# EAGLE library part PIC18F4XK22 (library edeca)
40/44-Pin, Low-Power, High-Performance Microcontrollers with nanoWatt XLP Technology
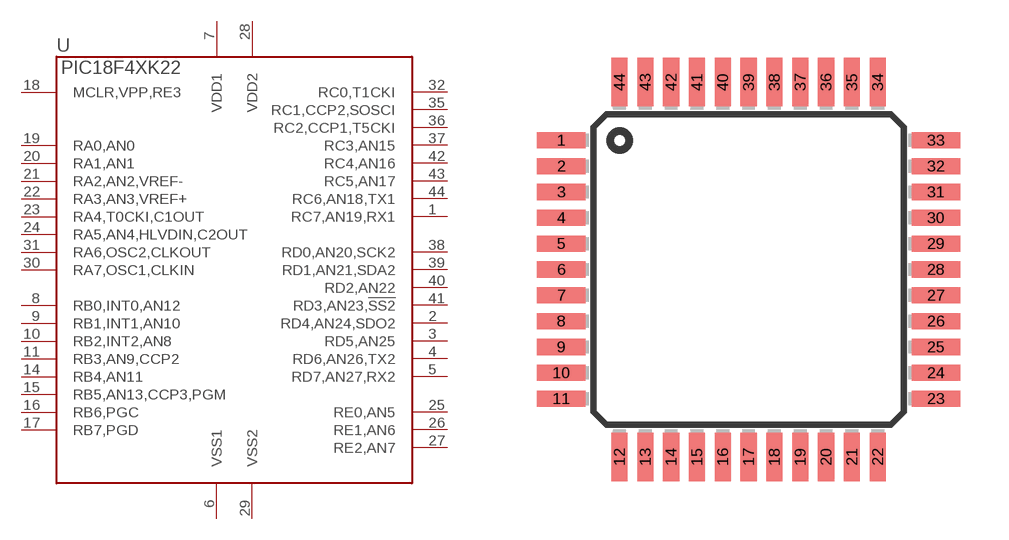
[diagram p10: symbol with the pads of TQFP44; footprint TQFP44]

Designator prefix -

## PIC18F4XK22-TQFP44  [TQFP44]
1  RC7,AN19,RX1
2  RD4,AN24,SDO2
3  RD5,AN25
4  RD6,AN26,TX2
5  RD7,AN27,RX2
6  VSS1  pwr
7  VDD1  pwr
8  RB0,INT0,AN12
9  RB1,INT1,AN10
10  RB2,INT2,AN8
11  RB3,AN9,CCP2
14  RB4,AN11
15  RB5,AN13,CCP3,PGM
16  RB6,PGC
17  RB7,PGD
18  MCLR,VPP,RE3  in
19  RA0,AN0
20  RA1,AN1
21  RA2,AN2,VREF-
22  RA3,AN3,VREF+
23  RA4,T0CKI,C1OUT
24  RA5,AN4,HLVDIN,C2OUT
25  RE0,AN5
26  RE1,AN6
27  RE2,AN7
28  VDD2  pwr
29  VSS2  pwr
30  RA7,OSC1,CLKIN  in
31  RA6,OSC2,CLKOUT  out
32  RC0,T1CKI
35  RC1,CCP2,SOSCI
36  RC2,CCP1,T5CKI
37  RC3,AN15
38  RD0,AN20,SCK2
39  RD1,AN21,SDA2
40  RD2,AN22
41  RD3,AN23,!SS2
42  RC4,AN16
43  RC5,AN17
44  RC6,AN18,TX1

## Footprint TQFP44 (pad centres in mm)
smd 1.5 x 0.5: 1 -5.8,4; 2 -5.8,3.2; 3 -5.8,2.4; 4 -5.8,1.6; 5 -5.8,0.8; 6 -5.8,0; 7 -5.8,-0.8; 8 -5.8,-1.6; 9 -5.8,-2.4; 10 -5.8,-3.2; 11 -5.8,-4; 23 5.8,-4; 24 5.8,-3.2; 25 5.8,-2.4; 26 5.8,-1.6; 27 5.8,-0.8; 28 5.8,0; 29 5.8,0.8; 30 5.8,1.6; 31 5.8,2.4; 32 5.8,3.2; 33 5.8,4
smd 0.5 x 1.5: 12 -4,-5.8; 13 -3.2,-5.8; 14 -2.4,-5.8; 15 -1.6,-5.8; 16 -0.8,-5.8; 17 0,-5.8; 18 0.8,-5.8; 19 1.6,-5.8; 20 2.4,-5.8; 21 3.2,-5.8; 22 4,-5.8; 34 4,5.8; 35 3.2,5.8; 36 2.4,5.8; 37 1.6,5.8; 38 0.8,5.8; 39 0,5.8; 40 -0.8,5.8; 41 -1.6,5.8; 42 -2.4,5.8; 43 -3.2,5.8; 44 -4,5.8